# Altium footprint library SiLPA_HE.PcbLib: 129 footprints (part 3 of 9)
Each footprint in its own frame and in the unit in brackets; x right, y up, seen from the top. Pads: shape width x height; smd on the part's side, far side on the other; paste and mask are expansions set on the pad; w line width, h text height; cw(c..) or ccw(c..) is an arc to the next point about the centre after c.
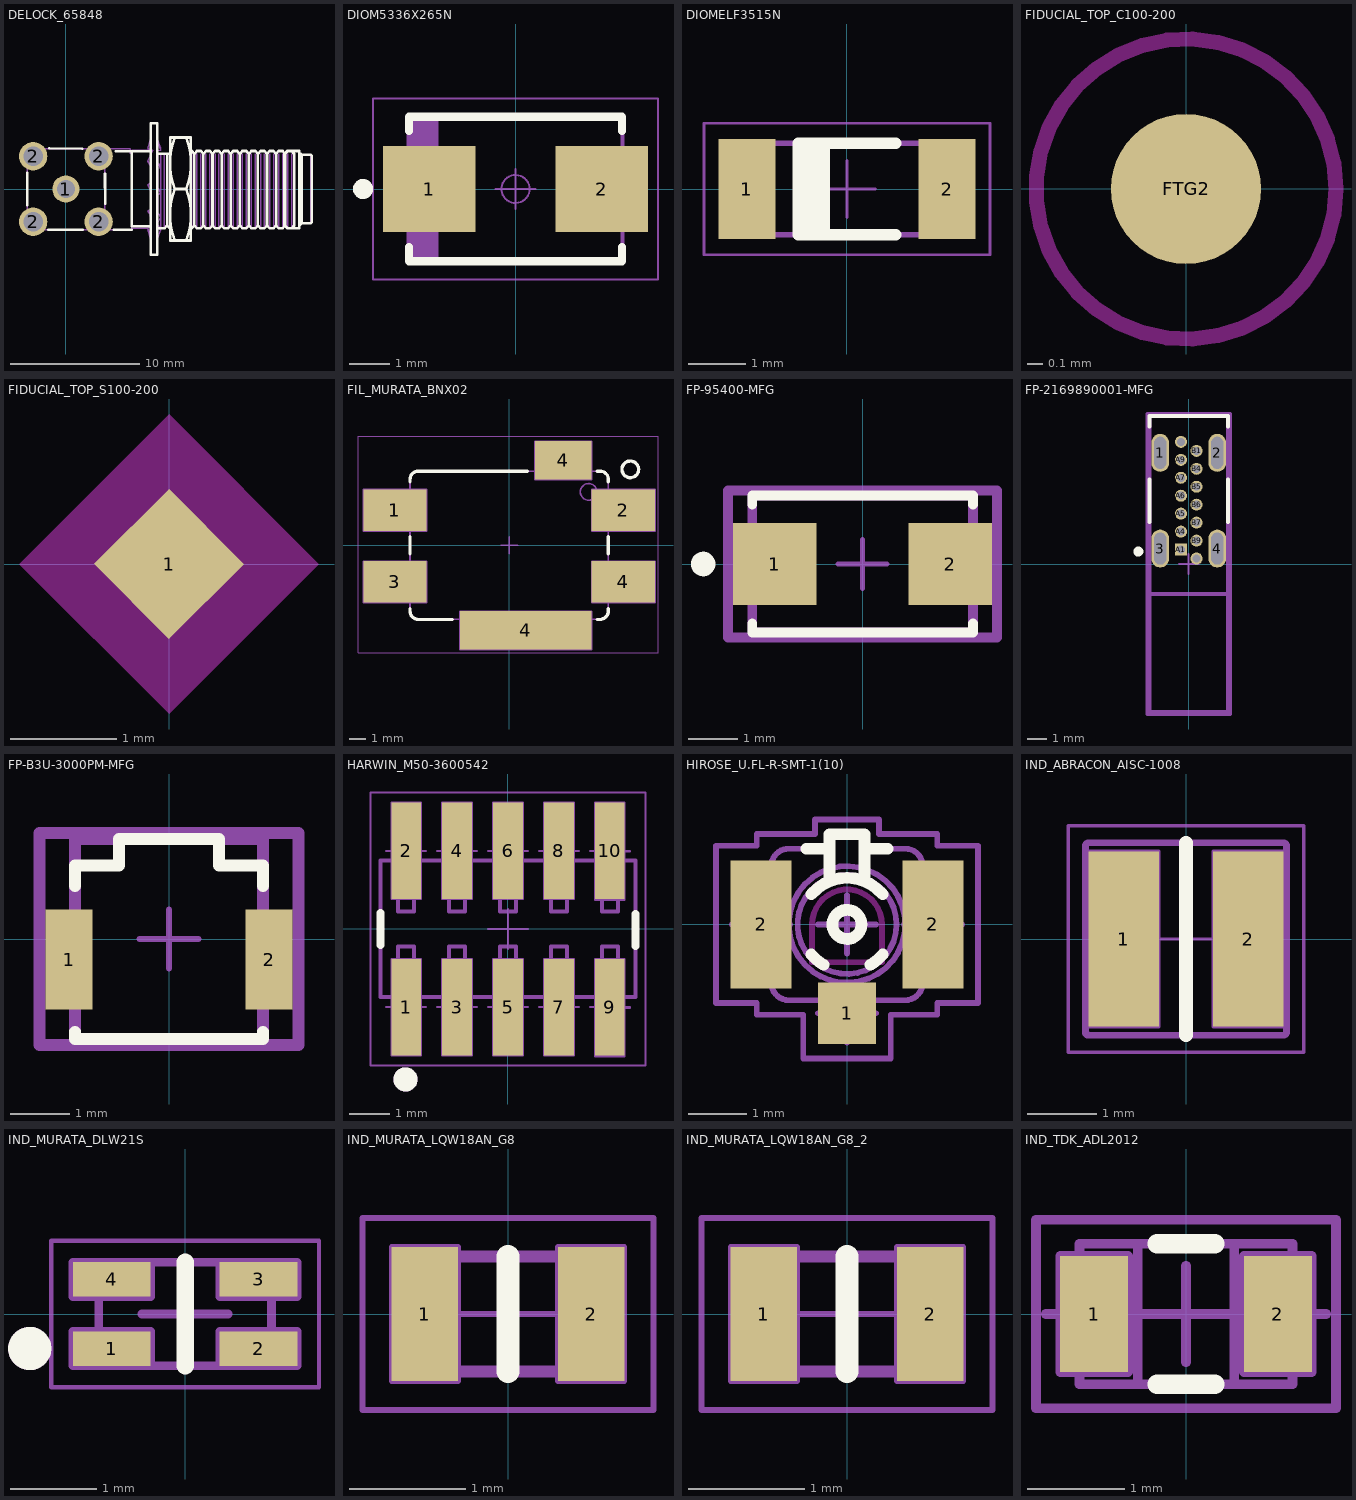
[diagram p2: the footprints below, top view; thin cyan lines are the x and y axes]

## DELOCK_65848 [mm]
pads (5):
  round 2.1 hole 1.4: 1(0,0)
  round 2.2 hole 1.5: 2(-2.54,-2.54) 2(-2.54,2.54) 2(2.54,-2.54) 2(2.54,2.54)
Top Overlay:
  lines w0.2: -3,-1.25 -3,1.248 ; -1.359,-3.148 1.324,-3.148 ; -1.295,3.148 1.27,3.134 ; 3.04,1.175 3.06,-1.125 ; 3.734,-3.148 5.1,-3.148 ; 3.873,2.925 6.6,2.925 ; 5.1,2.925 5.1,-2.9 6.6,-2.9 ; 7.1,-3.05 7.655,-3.05 7.855,-2.825 ; 7.1,2.75 8.1,2.75 ; 7.855,2.75 7.855,-2.825 ; 8.1,-3.05 8.056,-3.05 7.855,-2.825 ; 8.457,-4 cw(c13.877,-2) 8.457,0 ; 8.457,4 ccw(c13.877,2) 8.457,0 ; 9.343,-4 ccw(c3.923,-2) 9.343,0 ; 9.343,4 cw(c3.923,2) 9.343,0 ; 9.7,-3.05 9.771,-3.05 9.972,-2.825 ; 9.7,2.95 9.771,2.95 9.972,2.725 10.173,2.95 10.477,2.95 10.678,2.725 10.878,2.95 11.182,2.95 11.383,2.725 11.584,2.95 11.888,2.95 12.089,2.725 12.289,2.95 12.593,2.95 12.794,2.725 12.995,2.95 13.299,2.95 13.5,2.725 13.701,2.95 14.005,2.95 14.205,2.725 14.406,2.95 14.71,2.95 14.911,2.725 15.112,2.95 15.416,2.95 15.616,2.725 15.817,2.95 16.121,2.95 16.322,2.725 16.523,2.95 16.827,2.95 17.028,2.725 17.228,2.95 17.532,2.95 17.733,2.725 ; 9.972,2.75 9.972,-2.825 ; 10.678,2.75 10.678,-2.825 ; 11.383,2.75 11.383,-2.825 ; 12.089,2.75 12.089,-2.825 ; 12.794,2.75 12.794,-2.825 ; 13.5,2.75 13.5,-2.825 ; 14.205,2.75 14.205,-2.825 ; 14.911,2.75 14.911,-2.825 ; 15.616,2.75 15.616,-2.825 ; 16.322,2.75 16.322,-2.825 ; 16.972,2.725 17.173,2.95 18.107,2.95 18.107,-2.85 ; 16.972,2.75 16.972,-2.825 17.173,-3.05 18.107,-3.05 18.107,2.75 ; 17.028,2.75 17.028,-2.825 ; 17.733,2.75 17.733,-2.825 17.532,-3.05 17.228,-3.05 17.028,-2.825 ; 18.107,-2.858 18.3,-2.675 18.3,2.675 18.221,2.75 ; 18.3,-2.665 19,-2.665 19.1,-2.565 19.1,2.565 19,2.665 18.3,2.665 ; 8.457,0 9.343,0 ; 9.972,-2.825 10.173,-3.05 10.477,-3.05 10.678,-2.825 ; 10.678,-2.825 10.878,-3.05 11.182,-3.05 11.383,-2.825 ; 11.383,-2.825 11.584,-3.05 11.888,-3.05 12.089,-2.825 ; 12.089,-2.825 12.289,-3.05 12.593,-3.05 12.794,-2.825 ; 12.794,-2.825 12.995,-3.05 13.299,-3.05 13.5,-2.825 ; 13.5,-2.825 13.701,-3.05 14.005,-3.05 14.205,-2.825 ; 14.205,-2.825 14.406,-3.05 14.71,-3.05 14.911,-2.825 ; 14.911,-2.825 15.112,-3.05 15.416,-3.05 15.616,-2.825 ; 15.616,-2.825 15.817,-3.05 16.121,-3.05 16.322,-2.825 ; 16.322,-2.825 16.523,-3.05 16.827,-3.05 17.028,-2.825 ; 6.6,-5.1 6.6,5.1 7.1,5.1 7.1,-5.1 6.6,-5.1 ; 8.1,-4 8.1,4 9.7,4 9.7,-4 8.1,-4
Mechanical 8:
  lines w0.1: -3.2,-2.03 -2.03,-2.03 ; -3.2,2.03 -2.03,2.03 ; -3.04,-2.54 -2.54,-2.54 ; -3.04,2.54 -2.54,2.54 ; -2.54,-3.04 -2.54,-2.54 ; -2.54,-2.04 -2.54,-2.54 ; -2.54,2.04 -2.54,2.54 ; -2.54,3.04 -2.54,2.54 ; -2.04,-2.54 -2.54,-2.54 ; -2.04,2.54 -2.54,2.54 ; -0.5,0 0,0 ; 0,-0.5 0,0 ; 0,0.5 0,0 ; 0.5,0 0,0 ; 2.03,2.03 3,2.03 ; 2.04,-2.54 2.54,-2.54 ; 2.04,2.54 2.54,2.54 ; 2.54,-3.04 2.54,-2.54 ; 2.54,-2.04 2.54,-2.54 ; 2.54,2.04 2.54,2.54 ; 2.54,3.04 2.54,2.54 ; 3.04,-2.54 2.54,-2.54 ; 3.04,2.54 2.54,2.54
Mechanical 14:
  drawing of 155 lines, arcs and shapes, not listed
3D body "SMA_Delock_65848.step": height 9.15, standoff -2.99, extent -3.04,-3.174 18.96,3.094

## DIOM5336X265N [mm] "DO-214-AA/SMB Diode, Molded Body; 5.34mm L X 3.625mm W X 2.65mm H, IPC Medium Density"
height 2.65
pads (2):
  rect 2.3x2.15 smd: 1(-2.15,0) 2(2.15,0)
Top Overlay:
  circle w0.25: c-3.8,0 r0.125
  lines w0.2: -2.65,-1.45 -2.65,-1.8 2.65,-1.8 2.65,-1.45 ; -2.65,1.45 -2.65,1.8 2.65,1.8 2.65,1.45
Mechanical 14:
  lines w0.1: -2.57,-1.812 -2.57,1.812 ; -2.47,-1.812 -2.47,1.812 ; -2.37,-1.812 -2.37,1.812 ; -2.27,-1.812 -2.27,1.812 ; -2.17,-1.812 -2.17,1.812 ; -2.07,-1.812 -2.07,1.812 ; -1.97,-1.812 -1.97,1.812 ; -2.67,-1.812 -2.67,1.812 ; -2.67,-1.812 -2.67,1.812 ; -2.67,-1.812 2.67,-1.812 2.67,1.812 -2.67,1.812
Mechanical 15:
  circle w0.05: c0,0 r0.35
  lines w0.05: -0.5,0 0.5,0 ; 0,-0.5 0,0.5 ; -3.55,-2.25 -3.55,2.25 3.55,2.25 3.55,-2.25 -3.55,-2.25
3D body "DIOM5336X240N.stp": height 2.4, standoff 0, extent -2.7,-1.95 2.7,1.95

## DIOMELF3515N [mm] "SOD80C, MELF Diode, 2-Leads, Body 3.5x1.5mm, IPC Medium Density"
height 1.6
pads (2):
  rect 1x1.75 smd: 1(-1.75,0) 2(1.75,0)
Top Overlay:
  rectangle: -0.85,-0.8 -0.3,0.8
  lines w0.2: 0.85,-0.8 -0.85,-0.8 -0.85,0.8 0.85,0.8
Mechanical 14:
  lines w0.1: -1.802,-0.8 -1.802,0.8 ; -1.727,-0.8 -1.727,0.8 ; -1.652,-0.8 -1.652,0.8 ; -1.577,-0.8 -1.577,0.8 ; -1.502,-0.8 -1.502,0.8 ; -1.427,-0.8 -1.427,0.8 ; -1.352,-0.8 -1.352,0.8 ; -1.85,-0.8 1.85,-0.8 1.85,0.8 -1.85,0.8 -1.85,-0.8
Mechanical 15:
  lines w0.05: -0.5,0 0.5,0 ; 0,-0.5 0,0.5 ; -2.5,-1.15 2.5,-1.15 2.5,1.15 -2.5,1.15 -2.5,-1.15
3D body "DIOMELF3515N.stp": height 1.6, standoff 0, extent -1.85,-0.8 1.85,0.8

## FIDUCIAL_TOP_C100-200 [mm] "Round Fiducial Target, Top Layer, 1.0mm, Top Solder 2.0mm, Keepout =2.0mm"
height 1.75
pads (1):
  round 1 smd paste-0.51 mask+0.5: FTG2(0,0)
Top Layer keep-out:
  circle w0.1: c0,0 r1

## FIDUCIAL_TOP_S100-200 [mm] "Square Fiducial Target, Top Layer, 1.0mm, Top Solder 2.0mm, Keepout =2.0mm"
height 5.15
pads (1):
  rect 1x1 smd rot 45 paste-0.51 mask+0.5: 1(0,0)
Top Layer keep-out:
  region: 1.414,0 0,-1.414 -1.414,0 0,1.414

## FIL_MURATA_BNX02 [mm] "Block Type EMIFIL LC Combined Type, BNX02* Series"
height 3.3
pads (6):
  rect 3.8x2.5 smd: 1(-6.85,2.1) 2(6.85,2.1) 3(-6.85,-2.2) 4(6.85,-2.2)
  rect 7.9x2.3 smd: 4(1,-5.1)
  rect 3.4x2.3 smd: 4(3.25,5.1)
Top Overlay:
  circle w0.2: c7.268,4.554 r0.5
  lines w0.2: -5.95,-3.8 -5.95,-3.95 ccw(c-5.45,-3.95) -5.45,-4.45 -3.42,-4.45 ; -5.95,-0.5 -5.95,0.5 ; -5.95,3.8 -5.95,3.95 cw(c-5.45,3.95) -5.45,4.45 1.08,4.45 ; 5.28,-4.45 5.45,-4.45 ccw(c5.45,-3.95) 5.95,-3.95 5.95,-3.8 ; 5.28,4.45 5.45,4.45 cw(c5.45,3.95) 5.95,3.95 5.95,3.8 ; 5.95,-0.5 5.95,0.5
Mechanical 8:
  lines w0.1: -7.35,-2.2 -6.85,-2.2 ; -7.35,2.1 -6.85,2.1 ; -6.85,-2.7 -6.85,-2.2 ; -6.85,-1.7 -6.85,-2.2 ; -6.85,1.6 -6.85,2.1 ; -6.85,2.6 -6.85,2.1 ; -6.35,-2.2 -6.85,-2.2 ; -6.35,2.1 -6.85,2.1 ; -0.5,0 0,0 ; 0,-0.5 0,0 ; 0,0.5 0,0 ; 0.5,-5.1 1,-5.1 ; 0.5,0 0,0 ; 1,-5.6 1,-5.1 ; 1,-4.6 1,-5.1 ; 1.5,-5.1 1,-5.1 ; 2.75,5.1 3.25,5.1 ; 3.25,4.6 3.25,5.1 ; 3.25,5.6 3.25,5.1 ; 3.75,5.1 3.25,5.1 ; 6.35,-2.2 6.85,-2.2 ; 6.35,2.1 6.85,2.1 ; 6.85,-2.7 6.85,-2.2 ; 6.85,-1.7 6.85,-2.2 ; 6.85,1.6 6.85,2.1 ; 6.85,2.6 6.85,2.1 ; 7.35,-2.2 6.85,-2.2 ; 7.35,2.1 6.85,2.1 ; -8.75,-3.45 -8.75,-0.95 -4.95,-0.95 -4.95,-3.45 -8.75,-3.45 ; -8.75,0.85 -4.95,0.85 -4.95,3.35 -8.75,3.35 -8.75,0.85 ; -2.95,-6.25 -2.95,-3.95 4.95,-3.95 4.95,-6.25 -2.95,-6.25 ; 1.55,3.95 4.95,3.95 4.95,6.25 1.55,6.25 1.55,3.95 ; 4.95,-3.45 8.75,-3.45 8.75,-0.95 4.95,-0.95 4.95,-3.45 ; 4.95,0.85 4.95,3.35 8.75,3.35 8.75,0.85 4.95,0.85
Mechanical 14:
  circle w0.1: c4.768,3.204 r0.5
  lines w0.1: -5.95,-2.75 -6.05,-2.75 -6.05,-1.45 -5.95,-1.45 ; -5.95,1.45 -6.05,1.45 -6.05,2.75 -5.95,2.75 ; -2.5,-4.45 -2.5,-4.55 4.5,-4.55 4.5,-4.45 ; 2,4.45 2,4.55 4.5,4.55 4.5,4.45 ; 5.95,-2.75 6.05,-2.75 6.05,-1.45 5.95,-1.45 ; 5.95,1.45 6.05,1.45 6.05,2.75 5.95,2.75 ; -5.95,-3.95 ccw(c-5.45,-3.95) -5.45,-4.45 5.45,-4.45 ccw(c5.45,-3.95) 5.95,-3.95 5.95,3.95 ccw(c5.45,3.95) 5.45,4.45 -5.45,4.45 ccw(c-5.45,3.95) -5.95,3.95 -5.95,-3.95
Mechanical 15:
  lines w0.05: -9.07,-6.45 8.93,-6.45 8.93,6.55 -9.07,6.55 -9.07,-6.45
3D body "FIL_MURATA_BNX02.stp": height 3.1, standoff 0, extent -6.05,-4.55 6.05,4.55

## FP-95400-MFG [mm]
height 8.8
pads (2):
  rect 1.7x1.68 smd paste+0 mask+0: 1(-1.79,0) 2(1.79,0)
Top Overlay:
  circle w0.25: c-3.25,0 r0.125
  lines w0.2: -2.25,-1.215 -2.25,-1.395 2.25,-1.395 2.25,-1.215 ; -2.25,1.215 -2.25,1.395 2.25,1.395 2.25,1.215
Top 3D Body:
  lines w0.2: -2.25,-1.395 2.25,-1.395 2.25,1.395 -2.25,1.395 -2.25,-1.395
Top Courtyard:
  lines w0.2: -2.74,-1.495 2.74,-1.495 2.74,1.495 -2.74,1.495 -2.74,-1.495
Top Assembly:
  lines w0.2: -2.74,-1.495 2.74,-1.495 2.74,1.495 -2.74,1.495 -2.74,-1.495
  text ".Designator" at 0,0.188 h1
Top Component Center:
  lines w0.1: -0.5,0 0.5,0 ; 0,-0.5 0,0.5
3D body "Diode_Vishay_US1M-E3-61T_eec.STEP": height 0.25, standoff 0, extent -2.74,-1.495 2.74,1.495

## FP-2169890001-MFG [mm]
pads (18):
  rrect100% 0.9x1.9 hole 1.6 slot 0.6 at 0 deg paste-2539.97 mask+0: 1(-1.43,5.575) 2(1.43,5.575) 3(-1.43,0.775) 4(1.43,0.775)
  rect 0.6x0.6 hole 0.4 paste-2539.97 mask+0: A1(-0.39,0.725)
  round 0.6 hole 0.4 paste-2539.97 mask+0: A4(-0.39,1.625) A5(-0.39,2.525) A6(-0.39,3.425) A7(-0.39,4.325) A9(-0.39,5.225) A12(-0.39,6.125) B1(0.39,5.675) B4(0.39,4.775) B5(0.39,3.875) B6(0.39,2.975) B7(0.39,2.075) B9(0.39,1.175) B12(0.39,0.275)
Top Overlay:
  circle w0.25: c-2.53,0.625 r0.125
  lines w0.2: -1.98,2.1 -1.98,4.25 ; -1.98,6.9 -1.98,7.425 1.98,7.425 1.98,6.9 ; 1.98,2.1 1.98,4.25
Top 3D Body:
  lines w0.2: -2.08,-1.505 2.08,-1.505 ; -1.98,-7.425 1.98,-7.425 1.98,7.425 -1.98,7.425 -1.98,-7.425
Top Courtyard:
  lines w0.2: -2.08,-7.525 2.08,-7.525 2.08,7.525 -2.08,7.525 -2.08,-7.525
Top Assembly:
  lines w0.2: -2.08,-7.525 2.08,-7.525 2.08,7.525 -2.08,7.525 -2.08,-7.525
  text ".Designator" at 0,0.188 h1
Top Component Center:
  lines w0.1: -0.5,0 0.5,0 ; 0,-0.5 0,0.5
3D body "Conn_Molex_2169890001_eec.STEP": height 0.25, standoff 0, extent -2.08,-7.525 2.08,7.525

## FP-B3U-3000PM-MFG [mm]
pads (2):
  rect 0.8x1.7 smd paste+0 mask+0: 1(-1.7,-0.35) 2(1.7,-0.35)
Top Overlay:
  lines w0.2: -1.6,-1.575 -1.6,-1.7 1.6,-1.7 1.6,-1.575 ; -1.6,0.9 -1.6,1.25 -0.85,1.25 -0.85,1.7 0.85,1.7 0.85,1.25 1.6,1.25 1.6,0.9
Top 3D Body:
  lines w0.2: -1.6,-1.7 1.6,-1.7 1.6,1.7 -1.6,1.7 -1.6,-1.7
Top Courtyard:
  lines w0.2: -2.2,-1.8 2.2,-1.8 2.2,1.8 -2.2,1.8 -2.2,-1.8
Top Assembly:
  lines w0.2: -2.2,-1.8 2.2,-1.8 2.2,1.8 -2.2,1.8 -2.2,-1.8
  text ".Designator" at 0,0 h1
Top Component Center:
  lines w0.1: -0.5,0 0.5,0 ; 0,-0.5 0,0.5
3D body "Switch_Omron_B3U-3000PM_eec.STEP": height 0.25, standoff 0, extent -2.2,-1.8 2.2,1.8

## HARWIN_M50-3600542 [mm] "10 Contacts - Pitch 1.27mm - Dual Row SMT Vertical Pin Header"
height 5.13
pads (10):
  rect 0.74x2.4 smd: 1(-2.54,-1.95) 2(-2.54,1.95) 3(-1.27,-1.95) 4(-1.27,1.95) 5(0,-1.95) 6(0,1.95) 7(1.27,-1.95) 8(1.27,1.95) 9(2.54,-1.95) 10(2.54,1.95)
Top Overlay:
  circle w0.3: c-2.555,-3.75 r0.15
  lines w0.2: -3.175,-0.4 -3.175,0.4 ; 3.175,-0.424 3.175,0.376
Mechanical 8:
  lines w0.05: -3.04,-1.95 -2.54,-1.95 ; -3.04,1.95 -2.54,1.95 ; -2.54,-2.45 -2.54,-1.95 ; -2.54,-1.45 -2.54,-1.95 ; -2.54,1.45 -2.54,1.95 ; -2.54,2.45 -2.54,1.95 ; -2.04,-1.95 -2.54,-1.95 ; -2.04,1.95 -2.54,1.95 ; -1.77,-1.95 -1.27,-1.95 ; -1.77,1.95 -1.27,1.95 ; -1.27,-2.45 -1.27,-1.95 ; -1.27,-1.45 -1.27,-1.95 ; -1.27,1.45 -1.27,1.95 ; -1.27,2.45 -1.27,1.95 ; -0.77,-1.95 -1.27,-1.95 ; -0.77,1.95 -1.27,1.95 ; -0.5,-1.95 0,-1.95 ; -0.5,1.95 0,1.95 ; -0.499,0 0.001,0 ; 0,-2.45 0,-1.95 ; 0,-1.45 0,-1.95 ; 0,1.45 0,1.95 ; 0,2.45 0,1.95 ; 0.001,-0.5 0.001,0 ; 0.001,0.5 0.001,0 ; 0.5,-1.95 0,-1.95 ; 0.5,1.95 0,1.95 ; 0.501,0 0.001,0 ; 0.77,-1.95 1.27,-1.95 ; 0.77,1.95 1.27,1.95 ; 1.27,-2.45 1.27,-1.95 ; 1.27,-1.45 1.27,-1.95 ; 1.27,1.45 1.27,1.95 ; 1.27,2.45 1.27,1.95 ; 1.77,-1.95 1.27,-1.95 ; 1.77,1.95 1.27,1.95 ; 2.04,-1.95 2.54,-1.95 ; 2.04,1.95 2.54,1.95 ; 2.17,-3.174 2.91,-3.174 2.91,-0.774 2.17,-0.774 ; 2.17,0.726 2.91,0.726 2.91,3.126 2.17,3.126 ; 2.54,-2.45 2.54,-1.95 ; 2.54,-1.974 3.04,-1.974 ; 2.54,-1.45 2.54,-1.95 ; 2.54,1.45 2.54,1.95 ; 2.54,1.926 3.04,1.926 ; 2.54,2.45 2.54,1.95 ; 3.04,-1.95 2.54,-1.95 ; 3.04,1.95 2.54,1.95 ; -2.91,-3.15 -2.17,-3.15 -2.17,-0.75 -2.91,-0.75 -2.91,-3.15 ; -2.91,0.75 -2.17,0.75 -2.17,3.15 -2.91,3.15 -2.91,0.75 ; -1.64,-3.15 -0.9,-3.15 -0.9,-0.75 -1.64,-0.75 -1.64,-3.15 ; -1.64,0.75 -0.9,0.75 -0.9,3.15 -1.64,3.15 -1.64,0.75 ; -0.37,-3.15 0.37,-3.15 0.37,-0.75 -0.37,-0.75 -0.37,-3.15 ; -0.37,0.75 0.37,0.75 0.37,3.15 -0.37,3.15 -0.37,0.75 ; 0.9,-3.15 1.64,-3.15 1.64,-0.75 0.9,-0.75 0.9,-3.15 ; 0.9,0.75 1.64,0.75 1.64,3.15 0.9,3.15 0.9,0.75 ; 2.17,-3.15 2.91,-3.15 2.91,-0.75 2.17,-0.75 2.17,-3.15 ; 2.17,0.75 2.91,0.75 2.91,3.15 2.17,3.15 2.17,0.75
Mechanical 14:
  circle w0.3: c-2.555,-3.75 r0.15
  lines w0.1: -3.175,1.7 -3.175,-1.702 3.175,-1.702 3.175,1.702 -3.175,1.702 ; -2.74,-0.835 -2.74,-0.435 -2.34,-0.435 -2.34,-0.835 -2.74,-0.835 ; -2.74,0.435 -2.74,0.835 -2.34,0.835 -2.34,0.435 -2.74,0.435 ; -1.47,-0.835 -1.47,-0.435 -1.07,-0.435 -1.07,-0.835 -1.47,-0.835 ; -1.47,0.435 -1.47,0.835 -1.07,0.835 -1.07,0.435 -1.47,0.435 ; -0.2,-0.835 -0.2,-0.435 0.2,-0.435 0.2,-0.835 -0.2,-0.835 ; -0.2,0.435 -0.2,0.835 0.2,0.835 0.2,0.435 -0.2,0.435 ; 1.07,-0.835 1.07,-0.435 1.47,-0.435 1.47,-0.835 1.07,-0.835 ; 1.07,0.435 1.07,0.835 1.47,0.835 1.47,0.435 1.07,0.435 ; 2.34,-0.835 2.34,-0.435 2.74,-0.435 2.74,-0.835 2.34,-0.835 ; 2.34,0.435 2.34,0.835 2.74,0.835 2.74,0.435 2.34,0.435
Mechanical 15:
  lines w0.05: -3.425,-3.404 3.425,-3.404 3.425,3.4 -3.425,3.4 -3.425,-3.404
3D body "m50-3600542_asm.stp": height 4.69, standoff 0.01, extent -3.175,-2.808 3.175,2.692

## HIROSE_U.FL-R-SMT-1(10) [mm] "Up to 6GHz Ultra Small Surface Mount Male Coaxial Connectors U.FL Series"
height 1.25
pads (3):
  rect 1x1.05 smd: 1(0,-1.525)
  rect 1.05x2.2 smd: 2(-1.475,0) 2(1.475,0)
Top Layer keep-out:
  lines w0.1: -0.6,-0.65 0.6,-0.65 0.6,0 ccw(c0,0) -0.6,0 -0.6,-0.65
Top Overlay:
  circle w0.2: c0,0 r0.25
  lines w0.2: -0.7,1.3 -0.3,1.3 ; -0.612,-0.516 ccw(c0,0) -0.397,-0.695 ; -0.612,0.516 cw(c0,0) 0.612,0.516 ; -0.3,0.75 -0.3,1.55 0.3,1.55 0.3,0.75 ; 0.3,1.3 0.7,1.3 ; 0.397,-0.695 ccw(c0,0) 0.612,-0.516
Mechanical 8:
  lines w0.1: -1.975,0 -1.475,0 ; -1.475,-0.5 -1.475,0 ; -1.475,0.5 -1.475,0 ; -0.975,0 -1.475,0 ; -0.5,-1.525 0,-1.525 ; -0.5,0 0,0 ; 0,-2.025 0,-1.525 ; 0,-1.025 0,-1.525 ; 0,-0.5 0,0 ; 0,0.5 0,0 ; 0.5,-1.525 0,-1.525 ; 0.5,0 0,0 ; 0.975,0 1.475,0 ; 1.475,-0.5 1.475,0 ; 1.475,0.5 1.475,0 ; 1.975,0 1.475,0
Mechanical 14:
  circle w0.1: c0,0 r1
  circle w0.1: c0,0 r0.85
  circle w0.1: c0,0 r0.25
  lines w0.1: -1.3,-0.9 -1.5,-0.9 -1.5,0.9 -1.3,0.9 ; -0.3,-1.3 -0.3,-1.55 0.3,-1.55 0.3,-1.3 ; -0.3,0.954 -0.3,1.55 0.3,1.55 0.3,0.954 ; -0.3,1.3 -1,1.3 ccw(c-1,1) -1.3,1 -1.3,-1 ccw(c-1,-1) -1,-1.3 1,-1.3 ccw(c1,-1) 1.3,-1 1.3,1 ccw(c1,1) 1,1.3 0.3,1.3 ; 1.3,-0.9 1.5,-0.9 1.5,0.9 1.3,0.9
Mechanical 15:
  lines w0.1: 0.75,1.55 1.55,1.55 ; 1.55,1.55 0.55,1.55 0.55,1.8 -0.55,1.8 -0.55,1.55 -1.55,1.55 -1.55,1.35 -2.25,1.35 -2.25,-1.35 -1.55,-1.35 -1.55,-1.55 -0.75,-1.55 -0.75,-2.3 0.75,-2.3 0.75,-1.55 1.55,-1.55 1.55,-1.35 2.25,-1.35 2.25,1.35 1.55,1.35 1.55,1.55
3D body "HIROSE_U.FL-R-SMT-1(10).stp": height 1.25, standoff 0, extent -1.5,-1.55 1.5,1.55

## IND_ABRACON_AISC-1008 [mm] "Inductor, Molded Body; 2.92mm L X 2.79mm W, AISC-1008 Series"
height 2.29
pads (2):
  rect 1.02x2.54 smd: 1(-0.905,0) 2(0.905,0)
Top Overlay:
  lines w0.2: 0,-1.395 0,1.395
Mechanical 8:
  lines w0.05: -0.5,0 0,0 ; 0,-0.5 0,0 ; 0,0.5 0,0 ; 0.5,0 0,0 ; -1.415,-1.27 -0.905,0 -1.415,1.27 ; -1.415,-1.27 -1.415,1.27 ; -1.415,-1.27 -0.395,-1.27 -0.395,1.27 -1.415,1.27 ; 1.415,-1.27 0.905,0 1.415,1.27 ; 1.415,-1.27 1.415,1.27 ; 1.415,-1.27 0.395,-1.27 0.395,1.27 1.415,1.27
Mechanical 14:
  lines w0.1: -1.46,-1.345 ccw(c-1.41,-1.345) -1.41,-1.395 1.41,-1.395 ccw(c1.41,-1.345) 1.46,-1.345 1.46,1.345 ccw(c1.41,1.345) 1.41,1.395 -1.41,1.395 ccw(c-1.41,1.345) -1.46,1.345 -1.46,-1.345
Mechanical 15:
  lines w0.05: -1.71,-1.645 -1.71,1.645 1.71,1.645 1.71,-1.645 -1.71,-1.645
3D body "IND_ABRACON_AISC-1008_2.stp": height 2.29, standoff 1.78, extent -1.46,-1.395 1.46,1.395
3D body "IND_ABRACON_AISC-1008_1.stp": height 2.09, standoff 0, extent -1.06,-1.05 1.06,1.05

## IND_MURATA_DLW21S [mm] "Common Mode Choke Coil, DLW21S Series - Body 2 x 1.2mm"
height 1.4
pads (4):
  rect 0.9x0.4 smd: 1(-0.85,-0.4) 2(0.85,-0.4) 3(0.85,0.4) 4(-0.85,0.4)
Top Overlay:
  circle w0.25: c-1.8,-0.4 r0.125
  lines w0.2: 0,-0.6 0,0.6
Mechanical 8:
  lines w0.1: -0.5,0 0,0 ; 0,-0.5 0,0 ; 0,0.5 0,0 ; 0.5,0 0,0 ; -1.3,-0.6 -0.85,-0.4 -1.3,-0.2 ; -1.3,-0.6 -1.3,-0.2 ; -1.3,-0.6 -0.4,-0.6 -0.4,-0.2 -1.3,-0.2 ; -1.3,0.2 -0.85,0.4 -1.3,0.6 ; -1.3,0.2 -1.3,0.6 ; -1.3,0.2 -0.4,0.2 -0.4,0.6 -1.3,0.6 ; 1.3,-0.6 0.85,-0.4 1.3,-0.2 ; 1.3,-0.6 0.4,-0.6 0.4,-0.2 1.3,-0.2 ; 1.3,-0.6 1.3,-0.2 ; 1.3,-0.6 1.3,-0.2 ; 1.3,0.2 0.85,0.4 1.3,0.6 ; 1.3,0.2 0.4,0.2 0.4,0.6 1.3,0.6 ; 1.3,0.2 1.3,0.6 ; 1.3,0.2 1.3,0.6
Mechanical 14:
  circle w0.25: c-1.8,-0.4 r0.125
  lines w0.1: -1,-0.6 -1,0.6 1,0.6 1,-0.6 -1,-0.6
Mechanical 15:
  lines w0.05: -1.55,-0.85 -1.55,0.85 1.55,0.85 1.55,-0.85 -1.55,-0.85
3D body "IND_MURATA_DLW21S.stp": height 1.4, standoff 0, extent -1,-0.6 1,0.6

## IND_MURATA_LQW18AN_G8 [mm] "SMT inductor 0603, Body Width 0.99mm Body Lenght 1.65mm Height 1mm"
height 1
pads (2):
  rect 0.57x1.15 smd: 1(-0.715,0) 2(0.715,0)
Top Overlay:
  lines w0.2: 0,-0.495 0,0.495
Mechanical 8:
  lines w0.05: -0.5,0 0,0 ; 0,-0.5 0,0 ; 0,0.5 0,0 ; 0.5,0 0,0 ; -1,-0.575 -0.715,0 -1,0.575 ; -1,-0.575 -0.43,-0.575 -0.43,0.575 -1,0.575 ; -1,-0.575 -1,0.575 ; 1,-0.575 0.715,0 1,0.575 ; 1,-0.575 0.43,-0.575 0.43,0.575 1,0.575 ; 1,-0.575 1,0.575
Mechanical 14:
  lines w0.1: -0.565,-0.495 -0.565,0.495 ; 0.565,-0.495 0.565,0.495 ; -0.825,-0.495 0.825,-0.495 0.825,0.495 -0.825,0.495 -0.825,-0.495
Mechanical 15:
  lines w0.05: -1.25,-0.825 -1.25,0.825 1.25,0.825 1.25,-0.825 -1.25,-0.825
3D body "IND_MURATA_LQW18AN_G8_1.stp": height 0.95, standoff 0, extent -0.825,-0.495 0.825,0.495
3D body "IND_MURATA_LQW18AN_G8_2.stp": height 1, standoff 0.8, extent -0.825,-0.495 0.825,0.495

## IND_MURATA_LQW18AN_G8_2 [mm]
pads (2):
  rect 0.57x1.15 smd: 1(-0.715,0) 2(0.715,0)
Top Overlay:
  lines w0.2: 0,-0.495 0,0.495
Mechanical 8:
  lines w0.05: -0.5,0 0,0 ; 0,-0.5 0,0 ; 0,0.5 0,0 ; 0.5,0 0,0 ; -1,-0.575 -0.715,0 -1,0.575 ; -1,-0.575 -0.43,-0.575 -0.43,0.575 -1,0.575 ; -1,-0.575 -1,0.575 ; 1,-0.575 0.715,0 1,0.575 ; 1,-0.575 0.43,-0.575 0.43,0.575 1,0.575 ; 1,-0.575 1,0.575
Mechanical 14:
  lines w0.1: -0.565,-0.495 -0.565,0.495 ; 0.565,-0.495 0.565,0.495 ; -0.825,-0.495 0.825,-0.495 0.825,0.495 -0.825,0.495 -0.825,-0.495
Mechanical 15:
  lines w0.05: -1.25,-0.825 -1.25,0.825 1.25,0.825 1.25,-0.825 -1.25,-0.825
3D body "IND_MURATA_LQW18AN_G8_1.stp": height 0.95, standoff 0, extent -0.825,-0.495 0.825,0.495
3D body "IND_MURATA_LQW18AN_G8_2.stp": height 1, standoff 0.8, extent -0.825,-0.495 0.825,0.495

## IND_TDK_ADL2012 [mm] "Chip Inductor, EIA 0805, Metric 2012, Body 2.0x1.25mm"
height 1.4
pads (2):
  rect 0.7x1.2 smd: 1(-0.95,0) 2(0.95,0)
Top Overlay:
  lines w0.2: -0.3,-0.725 0.3,-0.725 ; -0.3,0.725 0.3,0.725
Mechanical 8:
  lines w0.1: -1.45,0 -0.95,0 ; -0.95,-0.5 -0.95,0 ; -0.95,0.5 -0.95,0 ; -0.5,0 0,0 ; 0,-0.5 0,0 ; 0,0.5 0,0 ; 0.5,0 0,0 ; 0.95,-0.5 0.95,0 ; 0.95,0.5 0.95,0 ; 1.45,0 0.95,0 ; -1.3,-0.6 -1.3,0.6 -0.6,0.6 -0.6,-0.6 -1.3,-0.6 ; 0.6,-0.6 1.3,-0.6 1.3,0.6 0.6,0.6 0.6,-0.6
Mechanical 14:
  lines w0.1: -0.5,-0.725 -0.5,0.725 ; 0.5,-0.725 0.5,0.725 ; -1.1,-0.725 -1.1,0.725 1.1,0.725 1.1,-0.725 -1.1,-0.725
Mechanical 15:
  lines w0.1: -1.55,-0.975 -1.55,0.975 1.55,0.975 1.55,-0.975 -1.55,-0.975
3D body "IND_VISHAY_IMC-0805-01.stp": height 1.4, standoff 0, extent -1.1,-0.725 1.1,0.725